# Altium footprint library Converter_ACDC.PcbLib: 42 footprints (part 2 of 3)
Each footprint in its own frame and in the unit in brackets; x right, y up, seen from the top. Pads: shape width x height; smd on the part's side, far side on the other; paste and mask are expansions set on the pad; w line width, h text height; cw(c..) or ccw(c..) is an arc to the next point about the centre after c.
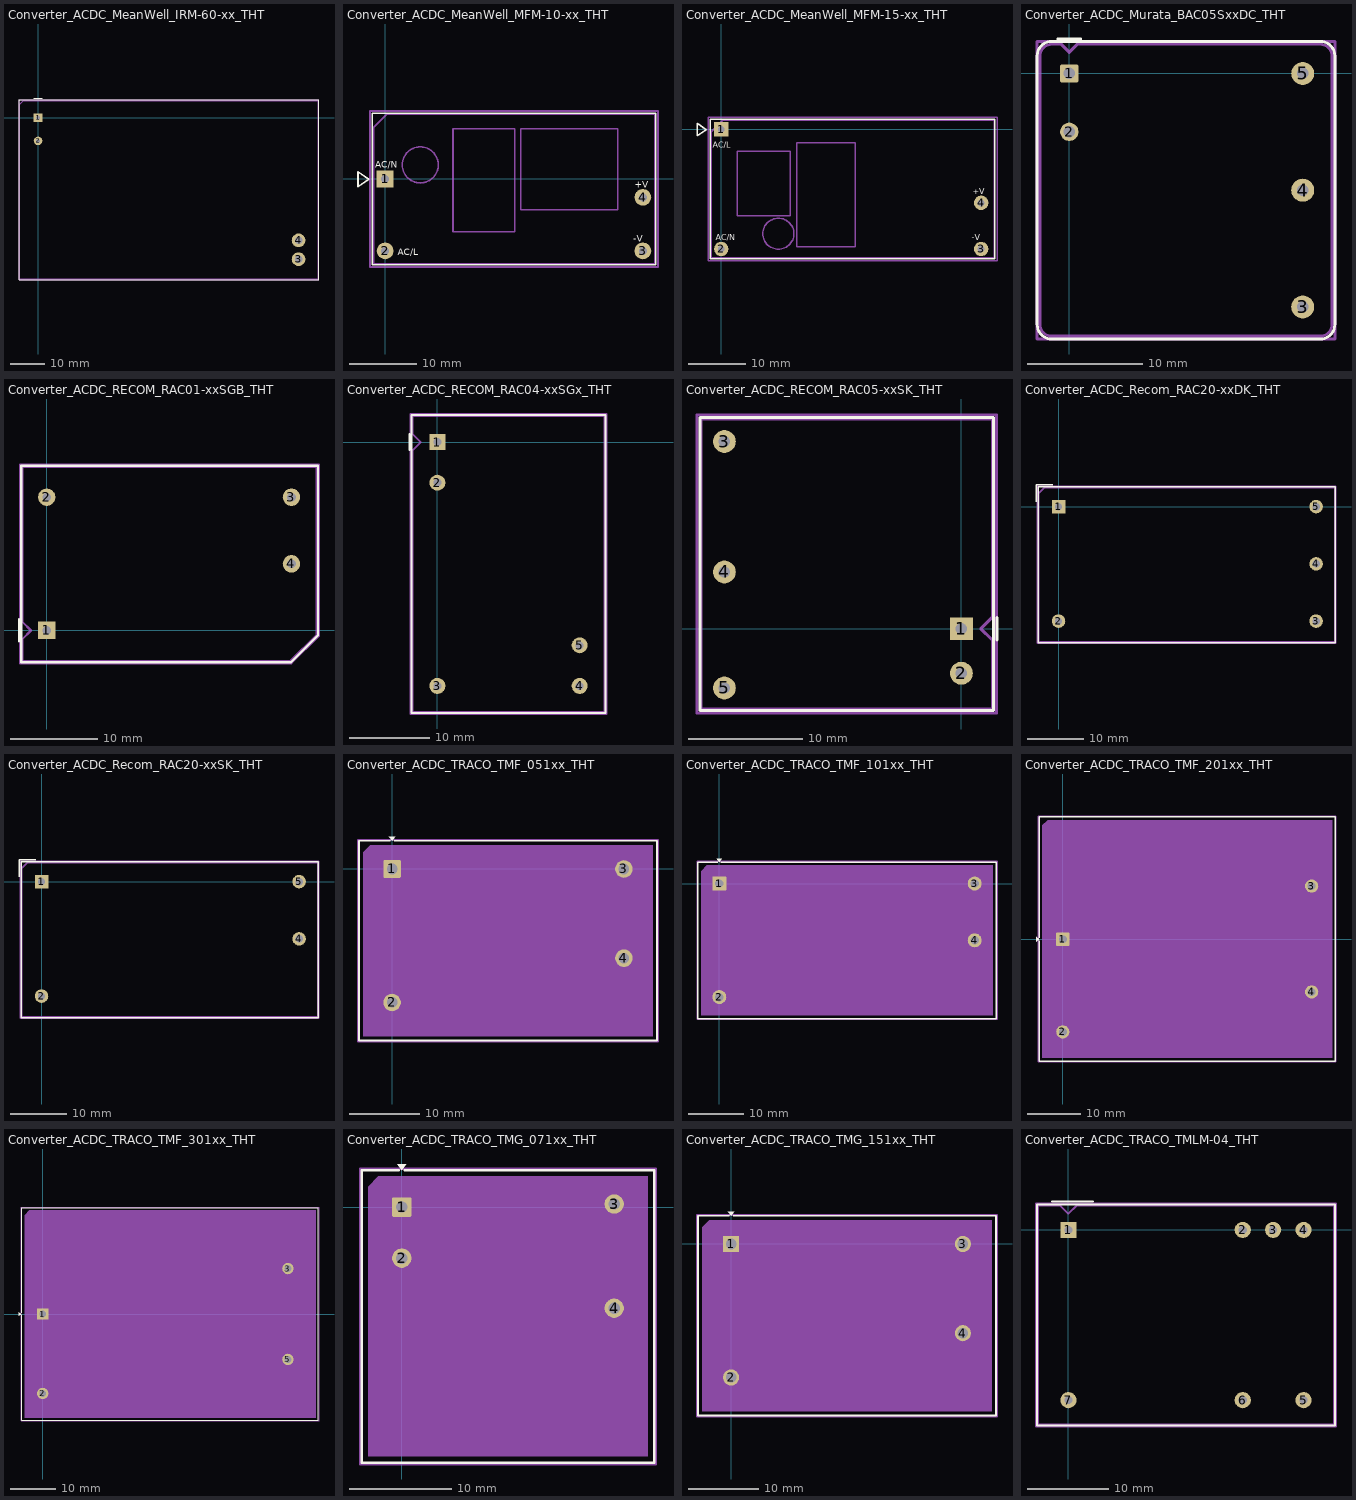
[diagram p1: the footprints below, top view; thin cyan lines are the x and y axes]

## Converter_ACDC_MeanWell_IRM-60-xx_THT [mm]
pads (4):
  rect 2.5x2.5 hole 1.2: 1(0,0)
  round 2.5 hole 1.2: 2(0,-6.75)
  round 4 hole 2.2: 3(76,-41.25) 4(76,-35.75)
F.SilkS:
  lines w0.254: -1.3,5.7 1.2,5.7 ; -5.5,-47.2 81.9,-47.2 81.9,5.2 -5.5,5.2 -5.5,-47.2
Top Assembly:
  lines w0.254: -5.3,-47 81.7,-47 81.7,5 -4.3,5 -5.3,4 -5.3,-47
  text "'.Designator'" at 78.64,-25.047 h1
Top Courtyard:
  lines w0.254: -5.55,-47.25 81.95,-47.25 81.95,5.25 -5.55,5.25 -5.55,-47.25
Top Designator:
  text ".Designator" at 30.582,-21.283 h1.52

## Converter_ACDC_MeanWell_MFM-10-xx_THT [mm]
pads (4):
  rect 2.5x2.5 hole 1.2: 1(0,0)
  round 2.5 hole 1.2: 2(0,-10.75) 3(38.5,-10.75) 4(38.5,-2.75)
F.SilkS:
  lines w0.254: -4.05,-1.15 -2.45,-0.05 -4.05,1.05 -4.05,-1.15 ; -1.9,-12.8 40.4,-12.8 40.4,9.8 -1.9,9.8 -1.9,-12.8
  text "AC/L" at 1.853,-11.421 h1
  text "AC/N" at -1.495,1.679 h1
  text "+V" at 37.243,-1.35 h1
  text "-V" at 37.043,-9.35 h1
Top Assembly:
  circle w0.254: c5.25,2.1 r2.693
  lines w0.254: -1.75,-12.65 40.25,-12.65 40.25,9.65 0.25,9.65 -1.75,7.65 -1.75,-12.65 ; 10.15,-7.9 19.35,-7.9 19.35,7.5 10.15,7.5 10.15,-7.9 ; 20.25,-4.6 34.75,-4.6 34.75,7.5 20.25,7.5 20.25,-4.6
  text "'.Designator'" at 15.453,-2.54 h1
Top Courtyard:
  lines w0.254: -2.25,-13.15 40.75,-13.15 40.75,10.15 -2.25,10.15 -2.25,-13.15
Top Designator:
  text ".Designator" at 10.732,-2.008 h1.52

## Converter_ACDC_MeanWell_MFM-15-xx_THT [mm]
pads (4):
  rect 2.5x2.5 hole 1.2: 1(0,0)
  round 2.5 hole 1.2: 2(0,-20.75) 3(45.05,-20.75) 4(45.05,-12.75)
F.SilkS:
  lines w0.254: -4.2,-1.15 -2.6,-0.05 -4.2,1.05 -4.2,-1.15 ; -1.9,-22.4 47.45,-22.4 47.45,1.7 -1.9,1.7 -1.9,-22.4
  text "AC/N" at -0.945,-19.221 h1
  text "AC/L" at -1.447,-3.221 h1
  text "+V" at 43.593,-11.25 h1
  text "-V" at 43.393,-19.25 h1
Top Assembly:
  circle w0.254: c9.9,-18.1 r2.693
  lines w0.254: -1.75,-22.25 47.3,-22.25 47.3,1.55 0.3,1.55 -1.75,-0.45 -1.75,-22.25 ; 2.8,-15 12,-15 12,-3.8 2.8,-3.8 2.8,-15 ; 13.1,-20.4 23.2,-20.4 23.2,-2.3 13.1,-2.3 13.1,-20.4
  text "'.Designator'" at 20.053,-11.64 h1
Top Courtyard:
  lines w0.254: -2.25,-22.75 47.8,-22.75 47.8,2.05 -2.25,2.05 -2.25,-22.75
Top Designator:
  text ".Designator" at 14.182,-10.858 h1.52

## Converter_ACDC_Murata_BAC05SxxDC_THT [mm]
pads (5):
  rrect25% 1.6x1.6 hole 1: 1(0,0)
  round 1.6 hole 1: 2(0,-5.08)
  round 2 hole 1: 3(20.32,-20.32) 4(20.32,-10.16) 5(20.32,0)
F.SilkS:
  lines w0.254: -1,3 0,3 1,3 ; -2.79,-21.86 ccw(c-1.54,-21.86) -1.54,-23.11 21.86,-23.11 ccw(c21.86,-21.86) 23.11,-21.86 23.11,1.54 ccw(c21.86,1.54) 21.86,2.79 -1.54,2.79 ccw(c-1.54,1.54) -2.79,1.54 -2.79,-21.86
Top Assembly:
  lines w0.254: -2.54,-21.86 ccw(c-1.54,-21.86) -1.54,-22.86 21.86,-22.86 ccw(c21.86,-21.86) 22.86,-21.86 22.86,1.54 ccw(c21.86,1.54) 21.86,2.54 0.7,2.54 0,1.84 -0.7,2.54 -1.54,2.54 ccw(c-1.54,1.54) -2.54,1.54 -2.54,-21.86
  text "'.Designator'" at 6.113,-11 h1
Top Courtyard:
  lines w0.254: -2.79,-23.11 23.11,-23.11 23.11,2.79 -2.79,2.79 -2.79,-23.11
Top Designator:
  text ".Designator" at 2.542,-10.563 h1.52
Cmts.User:
  text "Isolation barrier" at 12.624,-14.823 h1

## Converter_ACDC_RECOM_RAC01-xxSGB_THT [mm]
pads (4):
  rect 2x2 hole 1: 1(0,0)
  round 2 hole 1: 2(0,15.24) 3(28,15.24) 4(28,7.62)
F.SilkS:
  lines w0.254: -3.175,-1.27 -3.175,1.27 ; -2.93,-3.63 27.95,-3.63 31.03,-0.55 31.03,18.83 -2.93,18.83 -2.93,-3.63
Top Assembly:
  lines w0.254: -2.8,-3.5 27.9,-3.5 30.9,-0.5 30.9,18.7 -2.8,18.7 -2.8,1 -1.8,0 -2.8,-1 -2.8,-3.5
  text "'.Designator'" at 8.005,5.815 h1.5
Top Courtyard:
  lines w0.254: -3.05,-3.75 27.99,-3.75 31.15,-0.59 31.15,18.95 -3.05,18.95 -3.05,-3.75
Top Designator:
  text ".Designator" at 6.37,7.092 h1.52

## Converter_ACDC_RECOM_RAC04-xxSGx_THT [mm]
pads (5):
  rect 2x2 hole 1: 1(0,0)
  round 2 hole 1: 2(0,-5.08) 3(0,-30.48) 4(17.78,-30.48) 5(17.78,-25.4)
F.SilkS:
  lines w0.254: -3.5,-1 -3.5,1 ; -3.25,3.39 -3.24,-33.87 21.02,-33.87 21.02,3.39 -3.24,3.39
Top Assembly:
  lines w0.254: -3.11,-33.74 20.89,-33.74 20.89,3.26 -3.11,3.26 -3.11,1 -2.11,0 -3.11,-1 -3.11,-33.74
  text "'.Designator'" at 10.581,-22.994 h2
Top Courtyard:
  lines w0.254: -3.36,-33.99 21.14,-33.99 21.14,3.51 -3.36,3.51 -3.36,-33.99
Top Designator:
  text ".Designator" at 0.699,-16.228 h1.52
Cmts.User:
  text "KEEP-OUT ZONE" at -3.735,-34.927 h0.75

## Converter_ACDC_RECOM_RAC05-xxSK_THT [mm]
pads (5):
  rect 2x2 hole 1: 1(0,0)
  round 2 hole 1: 2(0,-3.9) 3(-20.76,16.4) 4(-20.76,4.97) 5(-20.76,-5.19)
F.SilkS:
  lines w0.254: 3.12,-1 3.12,1 ; -22.91,-7.15 2.82,-7.15 2.82,18.49 -22.91,18.49 -22.91,-7.15
Top Assembly:
  lines w0.254: -22.79,-7.03 2.7,-7.03 2.7,-1 1.7,0 2.7,1 2.7,18.37 -22.79,18.37 -22.79,-7.03
  text "'.Designator'" at -9.059,-2.424 h2
Top Courtyard:
  lines w0.254: -23.16,-7.4 3.07,-7.4 3.07,18.74 -23.16,18.74 -23.16,-7.4
Top Designator:
  text ".Designator" at -17.638,5.162 h1.52

## Converter_ACDC_Recom_RAC20-xxDK_THT [mm]
pads (5):
  rect 2.4x2.4 hole 1.3: 1(0,0)
  round 2.4 hole 1.3: 2(0,-20.32) 3(45.72,-20.32) 4(45.72,-10.16) 5(45.72,0)
F.SilkS:
  lines w0.254: -4,0.89 -4,3.89 -1,3.89 ; -3.62,-24.13 49.12,-24.13 49.12,3.51 -3.62,3.51 -3.62,-24.13
Top Assembly:
  lines w0.254: -3.5,-24.01 49,-24.01 49,3.39 -2.5,3.39 -3.5,2.39 -3.5,-24.01
  text "'.Designator'" at 18.703,-11.15 h1
Top Courtyard:
  lines w0.254: -3.75,-24.26 49.25,-24.26 49.25,3.64 -3.75,3.64 -3.75,-24.26
Top Designator:
  text ".Designator" at 15.007,-10.693 h1.52

## Converter_ACDC_Recom_RAC20-xxSK_THT [mm]
pads (4):
  rect 2.4x2.4 hole 1.3: 1(0,0)
  round 2.4 hole 1.3: 2(0,-20.32) 4(45.72,-10.16) 5(45.72,0)
F.SilkS:
  lines w0.254: -4,0.89 -4,3.89 -1,3.89 ; -3.62,-24.13 49.12,-24.13 49.12,3.51 -3.62,3.51 -3.62,-24.13
Top Assembly:
  lines w0.254: -3.5,-24.01 49,-24.01 49,3.39 -2.5,3.39 -3.5,2.39 -3.5,-24.01
  text "'.Designator'" at 18.703,-11.15 h1
Top Courtyard:
  lines w0.254: -3.75,-24.26 49.25,-24.26 49.25,3.64 -3.75,3.64 -3.75,-24.26
Top Designator:
  text ".Designator" at 15.007,-10.693 h1.52

## Converter_ACDC_TRACO_TMF_051xx_THT [mm]
pads (4):
  rrect10% 2.5x2.5 hole 1.5: 1(0,0)
  round 2.5 hole 1.5: 2(0,-19) 3(33,0) 4(33,-12.7)
F.SilkS:
  region: 0,4.01 -0.44,4.62 0.44,4.62
  lines w0.254: -0.296,4.01 -4.71,4.01 -4.71,-24.41 37.71,-24.41 37.71,4.01 0.296,4.01
Top Assembly:
  region: 37.1,-23.8 -4.1,-23.8 -4.1,2.4 -3.1,3.4 37.1,3.4
  text "'.Designator'" at 12.453,-11.04 h1
Top Courtyard:
  lines w0.254: -4.85,-24.55 37.85,-24.55 37.85,4.15 -4.85,4.15 -4.85,-24.55
Top Designator:
  text ".Designator" at 8.882,-10.536 h1.52

## Converter_ACDC_TRACO_TMF_101xx_THT [mm]
pads (4):
  rrect10% 2.5x2.5 hole 1.5: 1(0,0)
  round 2.5 hole 1.5: 2(0,-20.32) 3(45.72,0) 4(45.72,-10.16)
F.SilkS:
  region: 0,3.85 -0.44,4.46 0.44,4.46
  lines w0.254: -0.296,3.85 -3.85,3.85 -3.85,-24.17 49.57,-24.17 49.57,3.85 0.296,3.85
Top Assembly:
  region: 48.96,-23.56 -3.24,-23.56 -3.24,2.24 -2.24,3.24 48.96,3.24
  text "'.Designator'" at 18.813,-11 h1
Top Courtyard:
  lines w0.254: -3.99,-24.31 49.71,-24.31 49.71,3.99 -3.99,3.99 -3.99,-24.31
Top Designator:
  text ".Designator" at 15.242,-10.496 h1.52

## Converter_ACDC_TRACO_TMF_201xx_THT [mm]
pads (4):
  rrect10% 2.5x2.5 hole 1.5: 1(0,0)
  round 2.5 hole 1.5: 2(0,-17.5) 3(47,10.05) 4(47,-9.95)
F.SilkS:
  region: -4.46,0 -5.07,-0.44 -5.07,0.44
  lines w0.254: -4.46,-0.296 -4.46,-23.01 51.46,-23.01 51.46,23.11 -4.46,23.11 -4.46,0.296
Top Assembly:
  region: 50.85,-22.4 -3.85,-22.4 -3.85,21.5 -2.85,22.5 50.85,22.5
  text "'.Designator'" at 19.453,-0.79 h1
Top Courtyard:
  lines w0.254: -4.6,-23.15 51.6,-23.15 51.6,23.25 -4.6,23.25 -4.6,-23.15
Top Designator:
  text ".Designator" at 15.711,-0.458 h1.52

## Converter_ACDC_TRACO_TMF_301xx_THT [mm]
pads (4):
  rrect10% 2.5x2.5 hole 1.5: 1(0,0)
  round 2.5 hole 1.5: 2(0,-17.5) 3(54,10) 5(54,-10)
F.SilkS:
  region: -4.61,0 -5.22,-0.44 -5.22,0.44
  lines w0.254: -4.61,-0.296 -4.61,-23.41 60.71,-23.41 60.71,23.41 -4.61,23.41 -4.61,0.296
Top Assembly:
  region: 60.1,-22.8 -4,-22.8 -4,21.8 -3,22.8 60.1,22.8
  text "'.Designator'" at 24.003,-0.84 h1
Top Courtyard:
  lines w0.254: -4.75,-23.55 60.85,-23.55 60.85,23.55 -4.75,23.55 -4.75,-23.55
Top Designator:
  text ".Designator" at 20.261,-0.508 h1.52

## Converter_ACDC_TRACO_TMG_071xx_THT [mm]
pads (4):
  rrect13% 1.9x1.9 hole 1.1: 1(0,0)
  round 1.9 hole 1.1: 2(0,-5) 3(20.8,0.3) 4(20.8,-9.9)
F.SilkS:
  region: 0,3.61 -0.44,4.22 0.44,4.22
  lines w0.254: -0.296,3.61 -3.91,3.61 -3.91,-25.01 24.71,-25.01 24.71,3.61 0.296,3.61
Top Assembly:
  region: 24.1,-24.4 -3.3,-24.4 -3.3,2 -2.3,3 24.1,3
  text "'.Designator'" at 6.353,-11.54 h1
Top Courtyard:
  lines w0.254: -4.05,-25.15 24.85,-25.15 24.85,3.75 -4.05,3.75 -4.05,-25.15
Top Designator:
  text ".Designator" at 2.782,-11.036 h1.52

## Converter_ACDC_TRACO_TMG_151xx_THT [mm]
pads (4):
  rrect11% 2.3x2.3 hole 1.5: 1(0,0)
  round 2.3 hole 1.5: 2(0,-19) 3(33,0) 4(33,-12.7)
F.SilkS:
  region: 0,4.01 -0.44,4.62 0.44,4.62
  lines w0.254: -0.296,4.01 -4.71,4.01 -4.71,-24.41 37.71,-24.41 37.71,4.01 0.296,4.01
Top Assembly:
  region: 37.1,-23.8 -4.1,-23.8 -4.1,2.4 -3.1,3.4 37.1,3.4
  text "'.Designator'" at 12.453,-11.04 h1
Top Courtyard:
  lines w0.254: -4.85,-24.55 37.85,-24.55 37.85,4.15 -4.85,4.15 -4.85,-24.55
Top Designator:
  text ".Designator" at 8.882,-10.536 h1.52

## Converter_ACDC_TRACO_TMLM-04_THT [mm]
pads (7):
  rect 2x2 hole 1: 1(0,0)
  round 2 hole 1: 2(21.5,0) 3(25.25,0) 4(29,0) 5(29,-21) 6(21.5,-21) 7(0,-21)
F.SilkS:
  lines w0.254: -2,3.5 3,3.5 ; -3.87,-24.12 32.87,-24.12 32.87,3.12 -3.87,3.12 -3.87,-24.12
Top Assembly:
  lines w0.254: -3.75,-24 32.75,-24 32.75,3 1,3 0,2 -1,3 -3.75,3 -3.75,-24
  text "'.Designator'" at 10.953,-11.84 h1
Top Courtyard:
  lines w0.254: -4,-24.25 33,-24.25 33,3.25 -4,3.25 -4,-24.25
Top Designator:
  text ".Designator" at 6.882,-10.883 h1.52